# Altium schematic symbol library 729-3640.SCHLIB: 1 symbol
Pins are listed as number, name and electrical type; pins without a type are passive.

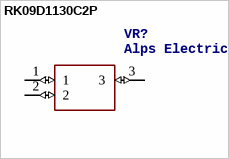
[diagram p0: symbol RK09D1130C2P]

## RK09D1130C2P
designator VR?, comment Alps Electric 1 Gang Rotary Potentiometer with a 6 mm Dia. Shaft, 10k, +/-20%, 0.05W, Linear RK09D1130C2P   Source:  Datasheet
Manufacturer_Name: ALPS Electric; Manufacturer_Part_Number: RK09D1130C2P; Mouser_Part_Number: 688-RK09D1130C2P; Mouser_Price-Stock: https://www.mouser.co.uk/ProductDetail/ALPS/RK09D1130C2P?qs=seHrhfPpLDw%2FxdY1Q%252B3DvA%3D%3D; Arrow_Part_Number: RK09D1130C2P; Arrow_Price-Stock: https://www.arrow.com/en/products/rk09d1130c2p/alps-electric; Description: Alps Electric 1 Gang Rotary Potentiometer with a 6 mm Dia. Shaft, 10k, +/-20%, 0.05W, Linear RK09D1130C2P; Height: mm
footprint RK09D1130C3C
pins: 1 (io), 2 (io), 3 (io)